# EAGLE library part WG209 (library ipas)
WiFi Module WG209 WG209 is a 802.11n/ b/g WiFi one-stream USB interface designed specifically to provide enhanced WiFi performance and value for home gateways, set-top boxes, gaming consoles, printers, IP cameras, and variety of other products that host processors not originally intended to support WiFi functions. WG209's MT7601 single-chip features a new architecture that integrates both a CPU and memory to run more of the WiFi function on-chip. The integrated CPU offloads the wireless processing overhead from the host appliance and enables consumer electronic devices to support WiFi functions seamlessly without change of original host processors. http://www.skylab.com.cn/en/productview-77.html
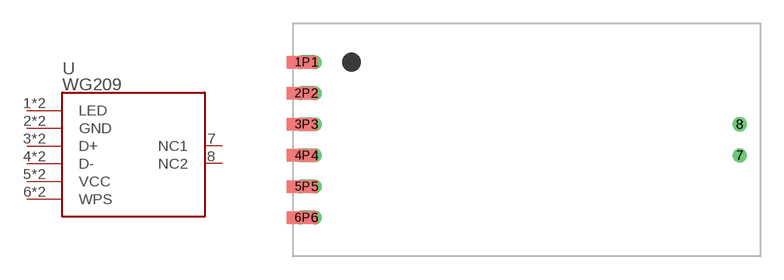
[diagram p41: symbol with the pads of WG209; footprint WG209]

Designator prefix U

## WG209  [WG209]
1  LED
1P  LED
2  GND  pwr
2P  GND  pwr
3  D+
3P  D+
4  D-
4P  D-
5  VCC  pwr
5P  VCC  pwr
6  WPS
6P  WPS
7  NC1  nc
8  NC2  nc

## Footprint WG209 (pad centres in mm)
drill 0.4 offset: 1 1.4,-2.5; 2 1.4,-4.5; 3 1.4,-6.5; 4 1.4,-8.5; 5 1.4,-10.5; 6 1.4,-12.5
smd 2 x 0.8: 1P 0.6,-2.5; 2P 0.6,-4.5; 3P 0.6,-6.5; 4P 0.6,-8.5; 5P 0.6,-10.5; 6P 0.6,-12.5
drill 0.4: 7 28.7,-8.5; 8 28.7,-6.5